# EAGLE library part 18F2XJ53 (library custom)
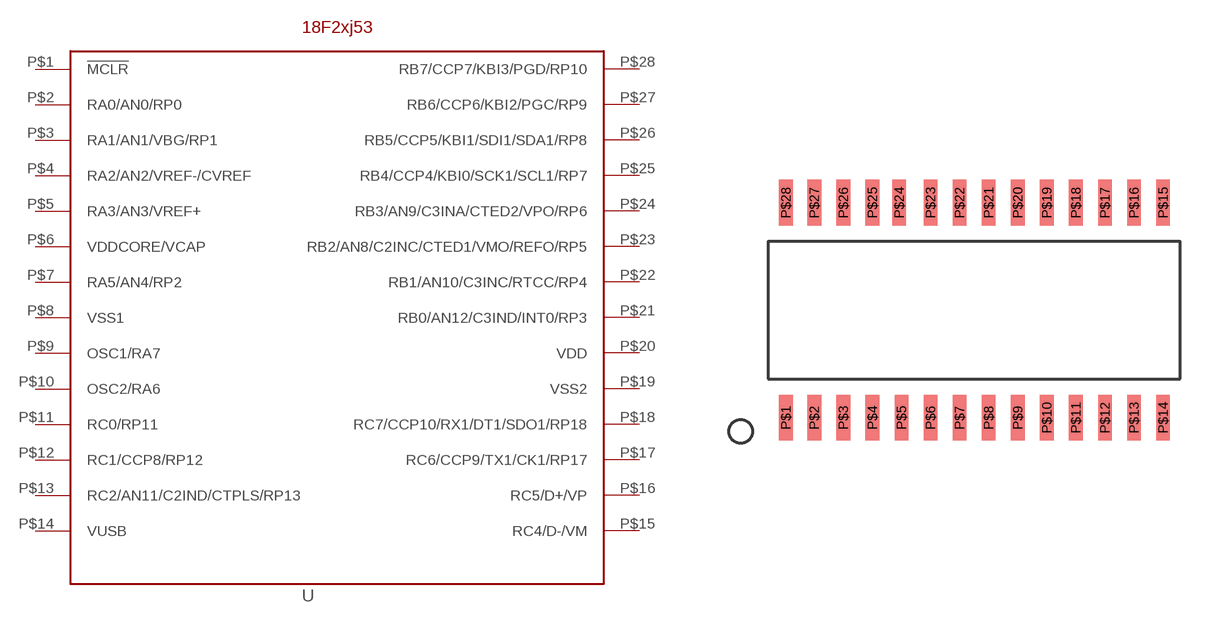
[diagram p14: symbol with the pads of SO28W; footprint SO28W]

Designator prefix -

## 18F2XJ53  [SO28W]
P$1  !MCLR
P$2  RA0/AN0/RP0
P$3  RA1/AN1/VBG/RP1
P$4  RA2/AN2/VREF-/CVREF
P$5  RA3/AN3/VREF+
P$6  VDDCORE/VCAP
P$7  RA5/AN4/RP2
P$8  VSS1
P$9  OSC1/RA7
P$10  OSC2/RA6
P$11  RC0/RP11
P$12  RC1/CCP8/RP12
P$13  RC2/AN11/C2IND/CTPLS/RP13
P$14  VUSB
P$15  RC4/D-/VM
P$16  RC5/D+/VP
P$17  RC6/CCP9/TX1/CK1/RP17
P$18  RC7/CCP10/RX1/DT1/SDO1/RP18
P$19  VSS2
P$20  VDD
P$21  RB0/AN12/C3IND/INT0/RP3
P$22  RB1/AN10/C3INC/RTCC/RP4
P$23  RB2/AN8/C2INC/CTED1/VMO/REFO/RP5
P$24  RB3/AN9/C3INA/CTED2/VPO/RP6
P$25  RB4/CCP4/KBI0/SCK1/SCL1/RP7
P$26  RB5/CCP5/KBI1/SDI1/SDA1/RP8
P$27  RB6/CCP6/KBI2/PGC/RP9
P$28  RB7/CCP7/KBI3/PGD/RP10

## Footprint SO28W (pad centres in mm)
smd 0.6 x 2: P$1 -8.225,-4.7; P$2 -6.985,-4.7; P$3 -5.715,-4.7; P$4 -4.445,-4.7; P$5 -3.175,-4.7; P$6 -1.905,-4.7; P$7 -0.635,-4.7; P$8 0.635,-4.7; P$9 1.905,-4.7; P$10 3.175,-4.7; P$11 4.445,-4.7; P$12 5.715,-4.7; P$13 6.985,-4.7; P$14 8.255,-4.7; P$15 8.255,4.7; P$16 6.985,4.7; P$17 5.715,4.7; P$18 4.445,4.7; P$19 3.175,4.7; P$20 1.905,4.7; P$21 0.635,4.7; P$22 -0.635,4.7; P$23 -1.905,4.7; P$24 -3.275,4.7; P$25 -4.445,4.7; P$26 -5.715,4.7; P$27 -6.985,4.7; P$28 -8.225,4.7